# Altium schematic symbol library vitech_semiconductors.SchLib: 6 symbols
Pins are listed as number, name and electrical type; pins without a type are passive.

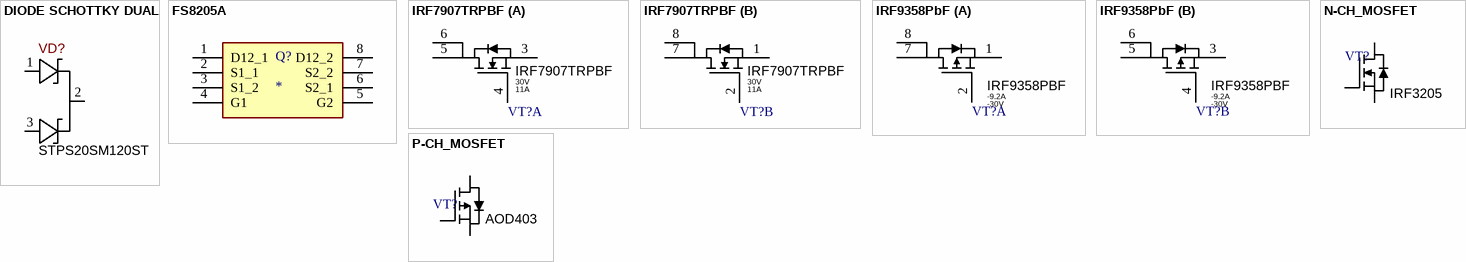
[diagram p0: symbols DIODE SCHOTTKY DUAL to P-CH_MOSFET]

## DIODE SCHOTTKY DUAL
designator VD?  Part Number: STPS20SM120ST  (hidden comment: *)
Diode Schottky Array 1 Pair Common Cathode, 120V 20A, TO-220; Manufacturer: STMicroelectronics; Marking: STPS20SM120; Component Status: Released; Standard Lead Time: 11 Weeks; Vf: 0.75V @ 10A; Replacement: NONE; Voltage: 120V; Part Type: Schottky; Component Type: PTH; Package: TO-220AB; Current: 20A; Temperature Range: -65°C ~ 150°C; ComponentLink1URL: https://www.st.com/resource/en/datasheet/stps20sm120s.pdf; Supplier 1: Digi-Key; Supplier Part Number 1: 497-15563-5-ND; Price: NONE; ComponentLink1Description: Datasheet
footprint TO220
footprint TO247 (3-Lead Plastic TO-247)
footprint TO247(H) (3-Lead Plastic TO-247)
footprint TO220(H)
pins: 1 Anode 1, 2 Cathode, 3 Anode 2

## FS8205A
designator Q?
Dual N-Channel Enahncement Mode Power MOSFET; Datasheet: https://www.ic-fortune.com/upload/Download/FS8205A-DS-12_EN.pdf; ComponentLink1Description: Data; ComponentLink1URL: https://www.ic-fortune.com/upload/Download/FS8205A-DS-12_EN.pdf
footprint TSSOP-8 (Dual N-Channel Enahncement Mode Power MOSFET)
pins: 1 D12_1, 2 S1_1, 3 S1_2, 4 G1, 5 G2, 6 S2_1, 7 S2_2, 8 D12_2

## IRF7907TRPBF
designator VT?  Continuous Drain Current (ID): 11A  Drain to Source Voltage (Vdss): 30V  (hidden comment: IRF7907TRPBF)
MOSFET 2N-CH 30V 9.1A/11A 8SO; FET Type: 2 N-Channel; Max Power Dissipation: 2W; Input Capacitance: 850pF; Rds On Max: 16.4mR; Gate to Source Voltage (Vgs): 20V; Width: 0.157inch; Max Dual Supply Voltage: 30V; Lead Free: Lead Free; Length: 0.196inch; RoHS Compliant: Yes; Case/Package: SO; Packaging: Tape and Reel; Max Operating Temperature: 150°C; Halogen Free: Halogen Free; Mount: Surface Mount; Number of Pins: 8; Min Operating Temperature: -55°C; Height: 0.059inch; ComponentLink1Description: Datasheet; ComponentLink1URL: https://www.infineon.com/dgdl/irf7907pbf-1.pdf?fileId=5546d462533600a40153560ca1b41d3b; ComponentLink2Description: Imrad; ComponentLink2URL: https://imrad.com.ua/ua/irf7907pbf-0; Partnumber: IRF7907TRPBF
footprint SOIC-8
part A pins: 3 S1, 4 G1, 5 D1, 6 D1
part B pins: 1 S2, 2 G2, 7 D22, 8 D2

## IRF9358PbF
designator VT?, comment Continuous Drain Current: -9.2A  Drain To Source Voltage: -30V  (hidden comment: IRF9358PBF)
MOSFET 2P-CH 30V 9.2A 8SOIC; Manufacturer: Infineon Technologies; Reverse Recovery Charge: 35nC; Gate Charge At Vgs: 19nC @ -4.5V; Max Forward Diode Voltage: -1.2V; Threshold Vgs Max: -2.4V; Turn Off Delay Time: 146ns; Threshold Vgs Min: -1.3V; Standoff Height: 0.1mm; Depletion Mode: False; Gate To Source Voltage: 20V; Input Capacitace At Vds: 1740pF @ -25V; Power Dissipation: 2W; Number Of P Channels: 2; Transconductance: 23S; Rthja Max: 62.5°C/W; Reverse Recovery Time: 55ns; Max Junction Temp: +150°C; Pulse Drain Current: -73A; Drain To Source Resistance: 19mΩ; Turn On Delay Time: 5.7ns; Mouser Description: Dual P-Channel 30 V 16.3 mOhm 19 nC HEXFET® Power Mosfet - SOIC-8; Footprint Url: https://www.infineon.com/dgdl/po-so8.pdf?fileId=5546d462580663ef0158068a1275014d; Temperature: -55°C to +150°C; Height: 1.75mm; Device Class L2: Transistors; ComponentLink2Description: Datasheet; ComponentLink2URL: https://www.infineon.com/dgdl/irf9358pbf.pdf?fileId=5546d462533600a4015356114ffa1da5; Ipc Land Pattern Name: SOIC127P600X155-8; Drain To Source Breakdown Voltage: -30V; Device Class L1: Discrete Semiconductors; Number Of Channels: 2; Automotive: No; Temperature Range High: +150°C; Temperature Range Low: -55°C; Device Class L3: MOSFETs; Octopart: https://octopart.com/irf9358pbf-infineon-65873752; Lead Free: Yes; Package: PG-DSO-8; Category: Trans; RoHS: TRUE; Digikey Description: MOSFET 2P-CH 30V 9.2A 8SOIC; Manufacturer Part Number: IRF9358PBF
footprint SOIC-8
part A pins: 1 S2, 2 G2, 7 D22, 8 D21
part B pins: 3 S1, 4 G1, 5 D12, 6 D11

## N-CH_MOSFET
designator VT?, comment Part Number: IRF3205  (hidden comment: AOD403)
N-MOSFET; полевой;; Part Type: N-Channel; Component Type: SMD; Package: D-PAK; ComponentLink1Description: Datasheet; ComponentLink1URL: https://www.tme.eu/Document/dd9e9fcbccf7c5b1f5f9da06cbc5bf44/AOD403-DTE.pdf; ComponentLink2Description: imrad; ComponentLink2URL: https://imrad.com.ua/ua/aod403-7?srsltid=AfmBOoqbv76D2b_UWMskTCTCmXEIhcjdT6a5VOgt9k0M-VKdEIqWTw9d
footprint DPAK
footprint TO220(H)
footprint TO247 (3-Lead Plastic TO-247)
footprint TO247(H) (3-Lead Plastic TO-247)
pins: 1 G, 2 D, 3 S

## P-CH_MOSFET
designator VT?, comment AOD403
P-MOSFET; полевой;; Part Type: P-Channel; Component Type: SMD; Package: D-PAK; ComponentLink1Description: Datasheet; ComponentLink1URL: https://www.tme.eu/Document/dd9e9fcbccf7c5b1f5f9da06cbc5bf44/AOD403-DTE.pdf; ComponentLink2Description: imrad; ComponentLink2URL: https://imrad.com.ua/ua/aod403-7?srsltid=AfmBOoqbv76D2b_UWMskTCTCmXEIhcjdT6a5VOgt9k0M-VKdEIqWTw9d; Part Number: AOD403
footprint DPAK
footprint TO220(H)
footprint TO247 (3-Lead Plastic TO-247)
footprint TO247(H) (3-Lead Plastic TO-247)
pins: 1 G, 2 D, 3 S